# EAGLE library part MOSFET-N-DUAL (library pimoroni-ics)
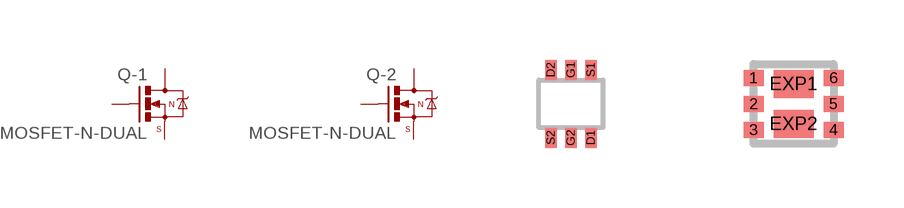
[diagram p65: symbol with the pads of SOT563_FET; footprints SOT563_FET, DFN2020-6L]

Designator prefix Q; gates -1=MOSFET-NCHANNEL -2=MOSFET-NCHANNEL

## MOSFET-N-DUAL  [SOT563_FET]
D1  -1:D  pas
D2  -2:D  pas
G1  -1:G  pas
G2  -2:G  pas
S1  -1:S  pas
S2  -2:S  pas

## MOSFET-N-DUALMCM3400A  [DFN2020-6L]
1  -1:S  pas
2  -1:G  pas
3  -2:D  pas
4  -2:S  pas
5  -2:G  pas
6  -1:D  pas
EXP1  -1:D  pas
EXP2  -2:D  pas

## Footprint SOT563_FET (pad centres in mm)
SOT563 for DMG1023UV-7
smd 0.3 x 0.5: D1 0.5,-0.85; D2 -0.5,0.85; G1 0,0.85; G2 0,-0.85; S1 0.5,0.85; S2 -0.5,-0.85

## Footprint DFN2020-6L (pad centres in mm)
smd 0.5 x 0.4: 1 -1,0.65; 2 -1,0; 3 -1,-0.65; 4 1,-0.65; 5 1,0; 6 1,0.65
smd 1 x 0.7: EXP1 0,0.5; EXP2 0,-0.5